# Altium schematic symbol library MCP3021A0T-E-OT.SchLib: 1 symbol
Pins are listed as number, name and electrical type; pins without a type are passive.

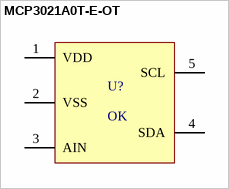
[diagram p0: symbol MCP3021A0T-E-OT]

## MCP3021A0T-E-OT
designator U?, comment OK
Analog to Digital Converters - ADC 10-bit ADC I2C Single Channel
pins: 1 VDD, 2 VSS, 3 AIN, 4 SDA, 5 SCL